# EAGLE library part ACCELBOARD (library accelboar_mma7361)
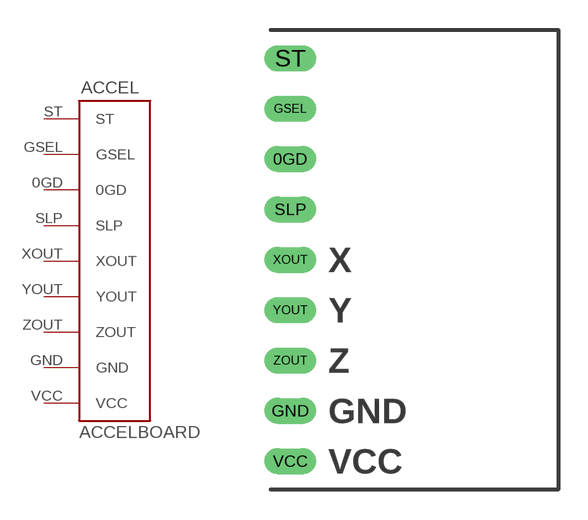
[diagram p0: symbol with the pads of BREAKOUT; footprint BREAKOUT]

Designator prefix ACCEL

## ACCELBOARDSIL  [BREAKOUT]
0GD  0GD
GND  GND
GSEL  GSEL
SLP  SLP
ST  ST
VCC  VCC
XOUT  XOUT
YOUT  YOUT
ZOUT  ZOUT

## Footprint BREAKOUT (pad centres in mm)
drill 0.813 long: 0GD 0,5.08; GND 0,-7.62; GSEL 0,7.62; SLP 0,2.54; ST 0,10.16; VCC 0,-10.16; XOUT 0,0; YOUT 0,-2.54; ZOUT 0,-5.08